# Altium footprint library PCB_Sensor.PcbLib: 11 footprints
Each footprint in its own frame and in the unit in brackets; x right, y up, seen from the top. Pads: shape width x height; smd on the part's side, far side on the other; paste and mask are expansions set on the pad; w line width, h text height; cw(c..) or ccw(c..) is an arc to the next point about the centre after c.
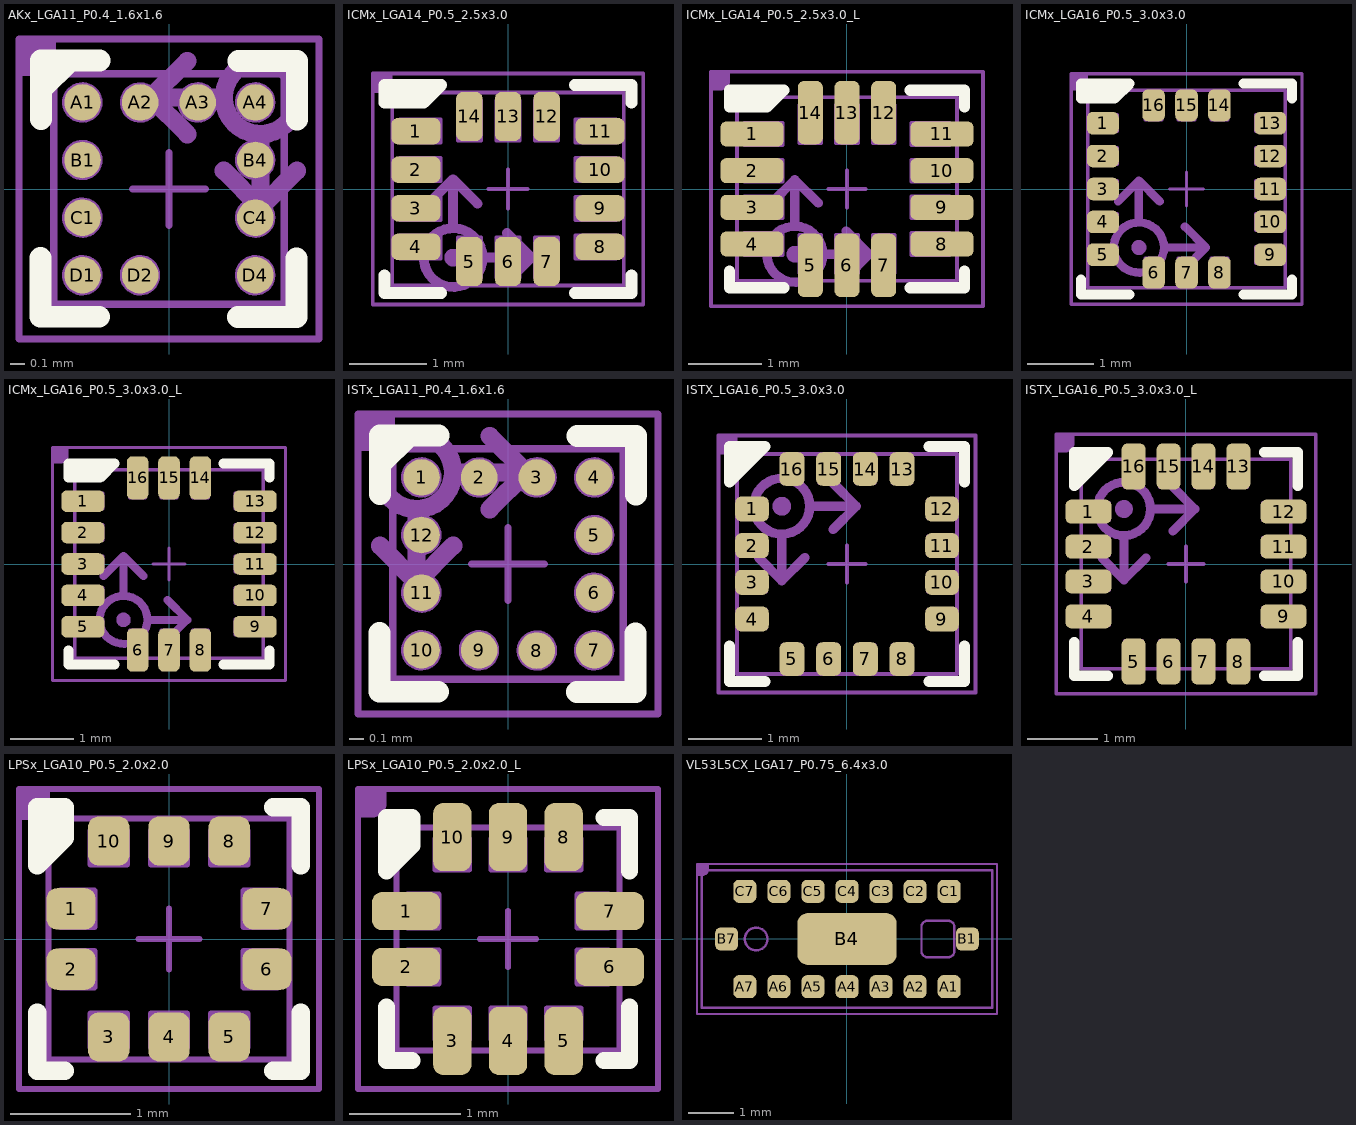
[diagram p0: the footprints below, top view; thin cyan lines are the x and y axes]

## AKx_LGA11_P0.4_1.6x1.6 [mil]
pads (11):
  round 10 smd: A1(-23.63,23.66) A2(-7.88,23.66) A3(7.86,23.66) A4(23.61,23.66) B1(-23.63,7.92) B4(23.61,7.92) C1(-23.63,-7.83) C4(23.61,-7.83) D1(-23.63,-23.58) D2(-7.88,-23.58) D4(23.61,-23.58)
Top Overlay:
  lines w6: -35.15,-18.92 -35.15,-34.91 -19.15,-34.92 ; -35.03,19.12 -35.03,35.11 -19.03,35.12 ; -35.03,27.11 -27.03,35.12 ; 18.88,-35.03 34.88,-35.03 34.88,-19.03 ; 19,35 34.99,35 35,19
Mechanical 4:
  circle w5: c25,25 r10
  circle w4: c25,25 r1
  lines w5: 5,15 -5,25 ; 5,35 -5,25 ; 15,5 25,-5 ; 15,25 -5,25 ; 25,15 25,-5 ; 35,5 25,-5
  text "Y" at 4.4,-38.26 h20
  text "X" at -40,10 h20
Mechanical 13:
  circle w2: c-23.7,-7.83 r4.53
  circle w2: c-23.7,-23.58 r4.53
  circle w2: c-7.95,-23.58 r4.53
  circle w2: c-23.7,7.92 r4.53
  circle w2: c-23.7,23.66 r4.53
  circle w2: c-7.9,23.65 r4.53
  circle w2: c23.55,-23.58 r4.53
  circle w2: c23.55,-7.83 r4.53
  circle w2: c23.55,7.92 r4.53
  circle w2: c23.55,23.66 r4.53
  circle w2: c7.8,23.66 r4.53
  lines w2: -10,0 10,0 ; 0,-10 0,10 ; -31.5,-31.5 31.5,-31.5 31.5,31.5 -31.5,31.5 -31.5,-31.5
T-Component:
  region: -41,41 -31,41 -31,36 -31,35.01 -31.76,33.17 -33.17,31.76 -35.01,31 -36,31 -41,31
  lines w1.97: -41,-41 41,-41 41,41 -41,41 -41,-41
  text ".Designator" at -174.09,-15.1 h70
3D body "LGA16C40P4X4_160X160X60.step": height 23.62, standoff 0, extent -31.5,-31.5 31.5,31.5

## ICMx_LGA14_P0.5_2.5x3.0 [mil]
pads (14):
  rrect50% 25x13.5 smd: 1(-47,29.53) 2(-47,9.84) 3(-47,-9.84) 4(-47,-29.53) 8(47,-29.53) 9(47,-9.84) 10(47,9.84) 11(47,29.53)
  rrect50% 13.5x25 smd: 5(-19.68,-37) 6(0,-37) 7(19.69,-37) 12(19.69,37) 13(0,37) 14(-19.68,37)
Top Overlay:
  region: -63,53 -34,53 -43,44 -63,44
  lines w6: -63,-44 -63,-53 -34,-53 ; 34,-53 63,-53 63,-44 ; 34,53 63,53 63,44 ; -63,44 -63,53 -34,53 -43,44 -63,44
Top Solder:
  region: 19.69,-24.5 -19.68,-24.5 -19.68,-49.5 19.69,-49.5
  region: 19.69,49.5 -19.68,49.5 -19.68,24.5 19.69,24.5
  region: -34.5,-29.53 -34.5,29.53 -59.5,29.53 -59.5,-29.53
  region: 59.5,-29.53 59.5,29.53 34.5,29.53 34.5,-29.53
Mechanical 4:
  circle w5: c-28,-35 r2
  circle w5: c-28,-35 r15
  lines w5: -40.5,-7.5 -28,5 ; -28,-20 -28,5 ; -15.5,-7.5 -28,5 ; -13,-35 12,-35 ; -0.5,-47.5 12,-35 ; -0.5,-22.5 12,-35
  text "X" at 17,-55 h30
  text "Y" at -48,15 h30
Mechanical 13:
  lines w2: -10,0 10,0 ; 0,-10 0,10 ; -59.06,-49.21 59.06,-49.21 59.06,49.21 -59.06,49.21 -59.06,-49.21 ; -55.12,-35.43 -34.45,-35.43 -34.45,-23.62 -55.12,-23.62 -55.12,-35.43 ; -55.12,-15.75 -34.45,-15.75 -34.45,-3.94 -55.12,-3.94 -55.12,-15.75 ; -55.12,3.94 -34.45,3.94 -34.45,15.75 -55.12,15.75 -55.12,3.94 ; -55.12,23.62 -34.45,23.62 -34.45,35.43 -55.12,35.43 -55.12,23.62 ; -25.59,-45.28 -25.59,-24.61 -13.78,-24.61 -13.78,-45.28 -25.59,-45.28 ; -25.59,24.61 -13.78,24.61 -13.78,45.28 -25.59,45.28 -25.59,24.61 ; -5.91,-45.28 -5.91,-24.61 5.91,-24.61 5.91,-45.28 -5.91,-45.28 ; -5.91,24.61 5.91,24.61 5.91,45.28 -5.91,45.28 -5.91,24.61 ; 13.78,-45.28 13.78,-24.61 25.59,-24.61 25.59,-45.28 13.78,-45.28 ; 13.78,24.61 13.78,45.28 25.59,45.28 25.59,24.61 13.78,24.61 ; 34.45,-35.43 55.12,-35.43 55.12,-23.62 34.45,-23.62 34.45,-35.43 ; 34.45,-15.75 55.12,-15.75 55.12,-3.94 34.45,-3.94 34.45,-15.75 ; 34.45,3.94 55.12,3.94 55.12,15.75 34.45,15.75 34.45,3.94 ; 34.45,23.62 55.12,23.62 55.12,35.43 34.45,35.43 34.45,23.62
T-Component:
  region: -69,59 -59,59 -59,54 -59,53.01 -59.76,51.17 -61.17,49.76 -63.01,49 -64,49 -69,49
  lines w2: -69,-59 -69,59 69,59 69,-59 -69,-59
  text ".Designator" at -248.5,-21.55 h100
3D body "PQFN50P300X250X97-14L.step": height 38.19, standoff 0, extent -59.06,-49.21 59.06,49.21

## ICMx_LGA14_P0.5_2.5x3.0_L [mil]
pads (14):
  rrect50% 34x13.5 smd: 1(-51,29.53) 2(-51,9.84) 3(-51,-9.84) 4(-51,-29.53) 8(51,-29.53) 9(51,-9.84) 10(51,9.84) 11(51,29.53)
  rrect50% 13.5x34 smd: 5(-19.68,-41) 6(0,-41) 7(19.69,-41) 12(19.69,41) 13(0,41) 14(-19.68,41)
Top Overlay:
  region: -63,53 -34,53 -43,44 -63,44
  lines w6: -63,-44 -63,-53 -34,-53 ; 34,-53 63,-53 63,-44 ; 34,53 63,53 63,44 ; -63,44 -43,44 -34,53 -63,53 -63,44
Top Solder:
  region: -34,-29.53 -34,29.53 -68,29.53 -68,-29.53
  region: 68,-29.53 68,29.53 34,29.53 34,-29.53
  region: 19.69,58 -19.68,58 -19.68,24 19.69,24
  region: 19.69,-24 -19.68,-24 -19.68,-58 19.69,-58
Mechanical 4:
  circle w5: c-28,-35 r2
  circle w5: c-28,-35 r15
  lines w5: -40.5,-7.5 -28,5 ; -28,-20 -28,5 ; -15.5,-7.5 -28,5 ; -13,-35 12,-35 ; -0.5,-47.5 12,-35 ; -0.5,-22.5 12,-35
  text "X" at 17,-55 h30
  text "Y" at -48,15 h30
Mechanical 13:
  lines w2: -10,0 10,0 ; 0,-10 0,10 ; -59.06,-49.21 -59.06,49.21 59.06,49.21 59.06,-49.21 -59.06,-49.21 ; -55.12,-35.43 -34.45,-35.43 -34.45,-23.62 -55.12,-23.62 -55.12,-35.43 ; -55.12,-15.75 -34.45,-15.75 -34.45,-3.94 -55.12,-3.94 -55.12,-15.75 ; -55.12,3.94 -34.45,3.94 -34.45,15.75 -55.12,15.75 -55.12,3.94 ; -55.12,23.62 -34.45,23.62 -34.45,35.43 -55.12,35.43 -55.12,23.62 ; -25.59,-45.28 -25.59,-24.61 -13.78,-24.61 -13.78,-45.28 -25.59,-45.28 ; -25.59,24.61 -13.78,24.61 -13.78,45.28 -25.59,45.28 -25.59,24.61 ; -5.91,-45.28 -5.91,-24.61 5.91,-24.61 5.91,-45.28 -5.91,-45.28 ; -5.91,24.61 5.91,24.61 5.91,45.28 -5.91,45.28 -5.91,24.61 ; 13.78,-45.28 13.78,-24.61 25.59,-24.61 25.59,-45.28 13.78,-45.28 ; 13.78,24.61 13.78,45.28 25.59,45.28 25.59,24.61 13.78,24.61 ; 34.45,-35.43 55.12,-35.43 55.12,-23.62 34.45,-23.62 34.45,-35.43 ; 34.45,-15.75 55.12,-15.75 55.12,-3.94 34.45,-3.94 34.45,-15.75 ; 34.45,3.94 55.12,3.94 55.12,15.75 34.45,15.75 34.45,3.94 ; 34.45,23.62 55.12,23.62 55.12,35.43 34.45,35.43 34.45,23.62
T-Component:
  region: -73,63 -63,63 -63,58 -63,57.01 -63.76,55.17 -65.17,53.76 -67.01,53 -68,53 -73,53
  lines w2: -73,-63 -73,63 73,63 73,-63 -73,-63
  text ".Designator" at -248.5,-21.55 h100
3D body "PQFN50P300X250X97-14L.step": height 38.19, standoff 0, extent -59.06,-49.21 59.06,49.21

## ICMx_LGA16_P0.5_3.0x3.0 [mil]
pads (16):
  rrect50% 19x13.5 smd: 1(-50,39.37) 2(-50,19.68) 3(-50,0) 4(-50,-19.68) 5(-50,-39.37) 9(50,-39.37) 10(50,-19.68) 11(50,0) 12(50,19.68) 13(50,39.37)
  rrect50% 13.5x19 smd: 6(-19.68,-50) 7(0,-50) 8(19.68,-50) 14(19.68,50) 15(0,50) 16(-19.68,50)
Top Overlay:
  region: -63,63 -34,63 -43,54 -63,54
  lines w6: -63,-54 -63,-63 -34,-63 ; 34,-63 63,-63 63,-54 ; 34,63 63,63 63,54 ; -63,54 -43,54 -34,63 -63,63 -63,54
Top Solder:
  region: -40,-40 -40,40 -60,40 -60,-40
  region: -40.5,-39.37 -40.5,39.37 -59.5,39.37 -59.5,-39.37
  region: 59.5,-39.37 59.5,39.37 40.5,39.37 40.5,-39.37
  region: 19.68,-40.5 -19.68,-40.5 -19.68,-59.5 19.68,-59.5
  region: 19.68,59.5 -19.68,59.5 -19.68,40.5 19.68,40.5
Mechanical 4:
  circle w5: c-28.5,-35 r2
  circle w5: c-28.5,-35 r15
  lines w5: -41,-7.5 -28.5,5 ; -28.5,-20 -28.5,5 ; -16,-7.5 -28.5,5 ; -13.5,-35 11.5,-35 ; -1,-47.5 11.5,-35 ; -1,-22.5 11.5,-35
  text "X" at 16.5,-55 h30
  text "Y" at -48.5,15 h30
Mechanical 13:
  lines w2: -10,0 10,0 ; 0,-10 0,10 ; -59.06,-59.06 59.06,-59.06 59.06,59.06 -59.06,59.06 -59.06,-59.06 ; -55.12,-44.29 -55.12,-34.45 -41.34,-34.45 -41.34,-44.29 -55.12,-44.29 ; -55.12,-24.61 -55.12,-14.76 -41.34,-14.76 -41.34,-24.61 -55.12,-24.61 ; -55.12,-4.92 -55.12,4.92 -41.34,4.92 -41.34,-4.92 -55.12,-4.92 ; -55.12,14.76 -55.12,24.61 -41.34,24.61 -41.34,14.76 -55.12,14.76 ; -55.12,34.45 -55.12,44.29 -41.34,44.29 -41.34,34.45 -55.12,34.45 ; -24.61,-55.12 -14.76,-55.12 -14.76,-41.34 -24.61,-41.34 -24.61,-55.12 ; -24.61,41.34 -24.61,55.12 -14.76,55.12 -14.76,41.34 -24.61,41.34 ; -4.92,-55.12 4.92,-55.12 4.92,-41.34 -4.92,-41.34 -4.92,-55.12 ; -4.92,41.34 -4.92,55.12 4.92,55.12 4.92,41.34 -4.92,41.34 ; 14.76,-55.12 24.61,-55.12 24.61,-41.34 14.76,-41.34 14.76,-55.12 ; 14.76,41.34 14.76,55.12 24.61,55.12 24.61,41.34 14.76,41.34 ; 41.34,-44.29 41.34,-34.45 55.12,-34.45 55.12,-44.29 41.34,-44.29 ; 41.34,-24.61 41.34,-14.76 55.12,-14.76 55.12,-24.61 41.34,-24.61 ; 41.34,-4.92 41.34,4.92 55.12,4.92 55.12,-4.92 41.34,-4.92 ; 41.34,14.76 41.34,24.61 55.12,24.61 55.12,14.76 41.34,14.76 ; 41.34,34.45 41.34,44.29 55.12,44.29 55.12,34.45 41.34,34.45
T-Component:
  region: -69,69 -59,69 -59,64 -59,63.01 -59.76,61.17 -61.17,59.76 -63.01,59 -64,59 -69,59
  lines w2: -69,-69 69,-69 69,69 -69,69 -69,-69
  text ".Designator" at -248.5,-21.55 h100
3D body "PQFN50P300X300X75-16L.step": height 29.53, standoff 0, extent -59.06,-59.06 59.06,59.06

## ICMx_LGA16_P0.5_3.0x3.0_L [mil]
pads (16):
  rrect50% 27x13.5 smd: 1(-54,39.37) 2(-54,19.68) 3(-54,0) 4(-54,-19.68) 5(-54,-39.37) 9(54,-39.37) 10(54,-19.68) 11(54,0) 12(54,19.68) 13(54,39.37)
  rrect50% 13.5x27 smd: 6(-19.68,-54) 7(0,-54) 8(19.68,-54) 14(19.68,54) 15(0,54) 16(-19.68,54)
Top Overlay:
  region: -63,63 -34,63 -43,54 -63,54
  lines w6: -63,-54 -63,-63 -34,-63 ; 34,-63 63,-63 63,-54 ; 34,63 63,63 63,54 ; -63,54 -43,54 -34,63 -63,63 -63,54
Top Solder:
  region: 19.68,67.5 -19.68,67.5 -19.68,40.5 19.68,40.5
  region: 67.5,-40 67.5,40 40.5,40 40.5,-40
  region: -40.5,-40 -40.5,40 -67.5,40 -67.5,-40
  region: -40.5,-39.37 -40.5,39.37 -59.5,39.37 -59.5,-39.37
  region: 19.68,-40.5 -19.68,-40.5 -19.68,-67.5 19.68,-67.5
Mechanical 4:
  circle w5: c-28.5,-35 r2
  circle w5: c-28.5,-35 r15
  lines w5: -41,-7.5 -28.5,5 ; -28.5,-20 -28.5,5 ; -16,-7.5 -28.5,5 ; -13.5,-35 11.5,-35 ; -1,-47.5 11.5,-35 ; -1,-22.5 11.5,-35
  text "X" at 16.5,-55 h30
  text "Y" at -48.5,15 h30
Mechanical 13:
  lines w2: -10,0 10,0 ; 0,-10 0,10 ; -59.06,-59.06 59.06,-59.06 59.06,59.06 -59.06,59.06 -59.06,-59.06 ; -55.12,-44.29 -55.12,-34.45 -41.34,-34.45 -41.34,-44.29 -55.12,-44.29 ; -55.12,-24.61 -55.12,-14.76 -41.34,-14.76 -41.34,-24.61 -55.12,-24.61 ; -55.12,-4.92 -55.12,4.92 -41.34,4.92 -41.34,-4.92 -55.12,-4.92 ; -55.12,14.76 -55.12,24.61 -41.34,24.61 -41.34,14.76 -55.12,14.76 ; -55.12,34.45 -55.12,44.29 -41.34,44.29 -41.34,34.45 -55.12,34.45 ; -24.61,-55.12 -14.76,-55.12 -14.76,-41.34 -24.61,-41.34 -24.61,-55.12 ; -24.61,41.34 -24.61,55.12 -14.76,55.12 -14.76,41.34 -24.61,41.34 ; -4.92,-55.12 4.92,-55.12 4.92,-41.34 -4.92,-41.34 -4.92,-55.12 ; -4.92,41.34 -4.92,55.12 4.92,55.12 4.92,41.34 -4.92,41.34 ; 14.76,-55.12 24.61,-55.12 24.61,-41.34 14.76,-41.34 14.76,-55.12 ; 14.76,41.34 14.76,55.12 24.61,55.12 24.61,41.34 14.76,41.34 ; 41.34,-44.29 41.34,-34.45 55.12,-34.45 55.12,-44.29 41.34,-44.29 ; 41.34,-24.61 41.34,-14.76 55.12,-14.76 55.12,-24.61 41.34,-24.61 ; 41.34,-4.92 41.34,4.92 55.12,4.92 55.12,-4.92 41.34,-4.92 ; 41.34,14.76 41.34,24.61 55.12,24.61 55.12,14.76 41.34,14.76 ; 41.34,34.45 41.34,44.29 55.12,44.29 55.12,34.45 41.34,34.45
T-Component:
  region: -73,73 -63,73 -63,68 -63,67.01 -63.76,65.17 -65.17,63.76 -67.01,63 -68,63 -73,63
  lines w2: -73,-73 73,-73 73,73 -73,73 -73,-73
  text ".Designator" at -248.5,-21.55 h100
3D body "PQFN50P300X300X75-16L.step": height 29.53, standoff 0, extent -59.06,-59.06 59.06,59.06

## ISTx_LGA11_P0.4_1.6x1.6 [mil]
pads (12):
  round 10 smd: 1(-23.63,23.66) 2(-7.88,23.66) 3(7.86,23.66) 4(23.61,23.66) 5(23.61,7.92) 6(23.61,-7.83) 7(23.61,-23.58) 8(7.88,-23.66) 9(-7.88,-23.58) 10(-23.63,-23.58) 11(-23.63,-7.83) 12(-23.63,7.92)
Top Overlay:
  lines w6: -35.15,-18.92 -35.15,-34.91 -19.15,-34.92 ; -35.03,19.12 -35.03,35.11 -19.03,35.12 ; -35.03,27.11 -27.03,35.12 ; 18.88,-35.03 34.88,-35.03 34.88,-19.03 ; 19,35 34.99,35 35,19
Mechanical 4:
  circle w4: c-25,25 r1
  circle w5: c-25,25 r10
  lines w5: -35,5 -25,-5 ; -25,15 -25,-5 ; -15,5 -25,-5 ; -15,25 5,25 ; -5,15 5,25 ; -5,35 5,25
  text "X" at 0,10 h20
  text "Y" at -45.6,-38.26 h20
Mechanical 13:
  circle w2: c7.8,23.66 r4.53
  circle w2: c23.55,23.66 r4.53
  circle w2: c23.55,7.92 r4.53
  circle w2: c23.55,-7.83 r4.53
  circle w2: c23.55,-23.58 r4.53
  circle w2: c-7.9,23.65 r4.53
  circle w2: c-23.7,23.66 r4.53
  circle w2: c-23.7,7.92 r4.53
  circle w2: c-7.95,-23.58 r4.53
  circle w2: c-23.7,-23.58 r4.53
  circle w2: c-23.7,-7.83 r4.53
  circle w2: c7.9,-23.65 r4.53
  lines w2: -10,0 10,0 ; 0,-10 0,10 ; -31.5,-31.5 -31.5,31.5 31.5,31.5 31.5,-31.5 -31.5,-31.5
T-Component:
  region: -41,41 -31,41 -31,36 -31,35.01 -31.76,33.17 -33.17,31.76 -35.01,31 -36,31 -41,31
  lines w1.97: -41,-41 -41,41 41,41 41,-41 -41,-41
  text ".Designator" at -174.09,-15.1 h70
3D body "LGA16C40P4X4_160X160X60.step": height 23.62, standoff 0, extent -31.5,-31.5 31.5,31.5

## ISTX_LGA16_P0.5_3.0x3.0 [mil]
pads (16):
  rrect50% 18x13.5 smd: 1(-51,29.53) 2(-51,9.84) 3(-51,-9.84) 4(-51,-29.53) 9(51,-29.53) 10(51,-9.84) 11(51,9.84) 12(51,29.53)
  rrect50% 13.5x18 smd: 5(-29.53,-51) 6(-9.84,-51) 7(9.84,-51) 8(29.53,-51) 13(29.53,51) 14(9.84,51) 15(-9.84,51) 16(-29.53,51)
Top Overlay:
  region: -63,63 -44,63 -63,44
  lines w6: -63,-44 -63,-63 -44,-63 ; 44,-63 63,-63 63,-44 ; 44,63 63,63 63,44 ; -63,44 -63,63 -44,63 -63,44
Top Solder:
  region: 60,-29.53 60,29.53 42,29.53 42,-29.53
  rectangle: -29.53,42 29.53,60
  rectangle: -29.53,-60 29.53,-42
  region: -60,29.53 -60,-29.53 -42,-29.53 -42,29.53
Mechanical 4:
  circle w5: c-35,31 r15
  circle w6: c-35,31 r2
  lines w5: -47.5,3.5 -35,-9 ; -35,16 -35,-9 ; -22.5,3.5 -35,-9 ; -20,31 5,31 ; -7.5,18.5 5,31 ; -7.5,43.5 5,31
  text "Y" at -55.19,-54.2 h30
  text "X" at 14.3,12.36 h30
Mechanical 13:
  lines w2: -10,0 10,0 ; 0,-10 0,10 ; -59.06,-59.06 -59.06,59.06 59.06,59.06 59.06,-59.06 -59.06,-59.06 ; -56.1,-34.45 -56.1,-24.61 -43.31,-24.61 -43.31,-34.45 -56.1,-34.45 ; -56.1,-14.76 -56.1,-4.92 -43.31,-4.92 -43.31,-14.76 -56.1,-14.76 ; -56.1,4.92 -56.1,14.76 -43.31,14.76 -43.31,4.92 -56.1,4.92 ; -56.1,24.61 -56.1,34.45 -43.31,34.45 -43.31,24.61 -56.1,24.61 ; -34.45,-56.1 -24.61,-56.1 -24.61,-43.31 -34.45,-43.31 -34.45,-56.1 ; -34.45,43.31 -24.61,43.31 -24.61,56.1 -34.45,56.1 -34.45,43.31 ; -14.76,-56.1 -4.92,-56.1 -4.92,-43.31 -14.76,-43.31 -14.76,-56.1 ; -14.76,43.31 -4.92,43.31 -4.92,56.1 -14.76,56.1 -14.76,43.31 ; 4.92,-56.1 14.76,-56.1 14.76,-43.31 4.92,-43.31 4.92,-56.1 ; 4.92,43.31 14.76,43.31 14.76,56.1 4.92,56.1 4.92,43.31 ; 24.61,-56.1 34.45,-56.1 34.45,-43.31 24.61,-43.31 24.61,-56.1 ; 24.61,43.31 34.45,43.31 34.45,56.1 24.61,56.1 24.61,43.31 ; 43.31,-34.45 43.31,-24.61 56.1,-24.61 56.1,-34.45 43.31,-34.45 ; 43.31,-14.76 43.31,-4.92 56.1,-4.92 56.1,-14.76 43.31,-14.76 ; 43.31,4.92 43.31,14.76 56.1,14.76 56.1,4.92 43.31,4.92 ; 43.31,24.61 43.31,34.45 56.1,34.45 56.1,24.61 43.31,24.61
T-Component:
  region: -69,69 -59,69 -59,64 -59,63.01 -59.76,61.17 -61.17,59.76 -63.01,59 -64,59 -69,59
  lines w2: -69,-69 -69,69 69,69 69,-69 -69,-69
  text ".Designator" at -248.5,-21.55 h100
3D body "QFN50P300X300X100-16L.step": height 39.37, standoff 0, extent -59.06,-59.06 59.06,59.06

## ISTX_LGA16_P0.5_3.0x3.0_L [mil]
pads (16):
  rrect50% 26x13.5 smd: 1(-55,29.53) 2(-55,9.84) 3(-55,-9.84) 4(-55,-29.53) 9(55,-29.53) 10(55,-9.84) 11(55,9.84) 12(55,29.53)
  rrect50% 13.5x26 smd: 5(-29.53,-55) 6(-9.84,-55) 7(9.84,-55) 8(29.53,-55) 13(29.53,55) 14(9.84,55) 15(-9.84,55) 16(-29.53,55)
Top Overlay:
  region: -63,63 -44,63 -63,44
  lines w6: -63,-44 -63,-63 -44,-63 ; 44,-63 63,-63 63,-44 ; 44,63 63,63 63,44 ; -63,44 -63,63 -44,63 -63,44
Top Solder:
  rectangle: -29.53,-68 29.53,-42
  region: -42,-29.53 -42,29.53 -68,29.53 -68,-29.53
  region: 68,-29.53 68,29.53 42,29.53 42,-29.53
  region: 29.53,68 -29.53,68 -29.53,42 29.53,42
Mechanical 4:
  circle w5: c-35,31 r15
  circle w6: c-35,31 r2
  lines w5: -47.5,3.5 -35,-9 ; -35,16 -35,-9 ; -22.5,3.5 -35,-9 ; -20,31 5,31 ; -7.5,18.5 5,31 ; -7.5,43.5 5,31
  text "Y" at -55.19,-54.2 h30
  text "X" at 14.3,12.36 h30
Mechanical 13:
  lines w2: -10,0 10,0 ; 0,-10 0,10 ; -59.06,-59.06 -59.06,59.06 59.06,59.06 59.06,-59.06 -59.06,-59.06 ; -56.1,-34.45 -56.1,-24.61 -43.31,-24.61 -43.31,-34.45 -56.1,-34.45 ; -56.1,-14.76 -56.1,-4.92 -43.31,-4.92 -43.31,-14.76 -56.1,-14.76 ; -56.1,4.92 -56.1,14.76 -43.31,14.76 -43.31,4.92 -56.1,4.92 ; -56.1,24.61 -56.1,34.45 -43.31,34.45 -43.31,24.61 -56.1,24.61 ; -34.45,-56.1 -24.61,-56.1 -24.61,-43.31 -34.45,-43.31 -34.45,-56.1 ; -34.45,43.31 -24.61,43.31 -24.61,56.1 -34.45,56.1 -34.45,43.31 ; -14.76,-56.1 -4.92,-56.1 -4.92,-43.31 -14.76,-43.31 -14.76,-56.1 ; -14.76,43.31 -4.92,43.31 -4.92,56.1 -14.76,56.1 -14.76,43.31 ; 4.92,-56.1 14.76,-56.1 14.76,-43.31 4.92,-43.31 4.92,-56.1 ; 4.92,43.31 14.76,43.31 14.76,56.1 4.92,56.1 4.92,43.31 ; 24.61,-56.1 34.45,-56.1 34.45,-43.31 24.61,-43.31 24.61,-56.1 ; 24.61,43.31 34.45,43.31 34.45,56.1 24.61,56.1 24.61,43.31 ; 43.31,-34.45 43.31,-24.61 56.1,-24.61 56.1,-34.45 43.31,-34.45 ; 43.31,-14.76 43.31,-4.92 56.1,-4.92 56.1,-14.76 43.31,-14.76 ; 43.31,4.92 43.31,14.76 56.1,14.76 56.1,4.92 43.31,4.92 ; 43.31,24.61 43.31,34.45 56.1,34.45 56.1,24.61 43.31,24.61
T-Component:
  region: -73,73 -63,73 -63,68 -63,67.01 -63.76,65.17 -65.17,63.76 -67.01,63 -68,63 -73,63
  lines w2: -73,-73 73,-73 73,73 -73,73 -73,-73
  text ".Designator" at -248.5,-21.55 h100
3D body "QFN50P300X300X100-16L.step": height 39.37, standoff 0, extent -59.06,-59.06 59.06,59.06

## LPSx_LGA10_P0.5_2.0x2.0 [mil]
pads (10):
  rrect50% 16x13.5 smd: 1(-32,9.84) 2(-32,-9.84) 6(32,-9.84) 7(32,9.84)
  rrect50% 13.5x16 smd: 3(-19.68,-32) 4(0,-32) 5(19.69,-32) 8(19.69,32) 9(0,32) 10(-19.68,32)
Top Overlay:
  region: -34,43 -43,43 -43,24 -34,33
  lines w6: -43,-24 -43,-43 -34,-43 ; 34,-43 43,-43 43,-24 ; 34,43 43,43 43,24 ; -43,24 -43,43 -34,43 -34,33 -43,24
Top Solder:
  region: 19.69,40 -19.69,40 -19.69,24 19.69,24
  region: 19.69,-24 -19.69,-24 -19.69,-40 19.69,-40
  region: 40,-9.84 40,9.84 24,9.84 24,-9.84
  region: -24,-9.84 -24,9.84 -40,9.84 -40,-9.84
Mechanical 13:
  lines w2: -10,0 10,0 ; 0,-10 0,10 ; -39.37,-39.37 39.37,-39.37 39.37,39.37 -39.37,39.37 -39.37,-39.37 ; -35.43,-15.75 -24.41,-15.75 -24.41,-3.94 -35.43,-3.94 -35.43,-15.75 ; -35.43,3.94 -24.41,3.94 -24.41,15.75 -35.43,15.75 -35.43,3.94 ; -25.59,-35.43 -25.59,-24.41 -13.78,-24.41 -13.78,-35.43 -25.59,-35.43 ; -25.59,24.41 -25.59,35.43 -13.78,35.43 -13.78,24.41 -25.59,24.41 ; -5.91,-35.43 -5.91,-24.41 5.91,-24.41 5.91,-35.43 -5.91,-35.43 ; -5.91,24.41 -5.91,35.43 5.91,35.43 5.91,24.41 -5.91,24.41 ; 13.78,-35.43 13.78,-24.41 25.59,-24.41 25.59,-35.43 13.78,-35.43 ; 13.78,24.41 13.78,35.43 25.59,35.43 25.59,24.41 13.78,24.41 ; 24.41,-15.75 24.41,-3.94 35.43,-3.94 35.43,-15.75 24.41,-15.75 ; 24.41,3.94 24.41,15.75 35.43,15.75 35.43,3.94 24.41,3.94
T-Component:
  region: -49,49 -39,49 -39,44 -39,43.01 -39.76,41.17 -41.17,39.76 -43.01,39 -44,39 -49,39
  lines w2: -49,-49 49,-49 49,49 -49,49 -49,-49
  text ".Designator" at -248.5,-21.55 h100
3D body "QFN50P200X200X80_HS-11L.step": height 31.5, standoff 0, extent -39.37,-39.37 39.37,39.37

## LPSx_LGA10_P0.5_2.0x2.0_L [mil]
pads (10):
  rrect50% 24x13.5 smd: 1(-36,9.84) 2(-36,-9.84) 6(36,-9.84) 7(36,9.84)
  rrect50% 13.5x24 smd: 3(-19.68,-36) 4(0,-36) 5(19.69,-36) 8(19.69,36) 9(0,36) 10(-19.68,36)
Top Overlay:
  region: -43,43 -34,43 -34,33 -43,24
  lines w6: -43,-24 -43,-43 -34,-43 ; 34,-43 43,-43 43,-24 ; 34,43 43,43 43,24 ; -43,24 -34,33 -34,43 -43,43 -43,24
Top Solder:
  region: 24,9.84 24,-9.84 48,-9.84 48,9.84
  region: -48,9.84 -48,-9.84 -24,-9.84 -24,9.84
  region: 19.69,-24 -19.69,-24 -19.69,-48 19.69,-48
  region: 19.69,48 -19.69,48 -19.69,24 19.69,24
Mechanical 13:
  lines w2: -10,0 10,0 ; 0,-10 0,10 ; -39.37,-39.37 39.37,-39.37 39.37,39.37 -39.37,39.37 -39.37,-39.37 ; -35.43,-15.75 -24.41,-15.75 -24.41,-3.94 -35.43,-3.94 -35.43,-15.75 ; -35.43,3.94 -24.41,3.94 -24.41,15.75 -35.43,15.75 -35.43,3.94 ; -25.59,-35.43 -25.59,-24.41 -13.78,-24.41 -13.78,-35.43 -25.59,-35.43 ; -25.59,24.41 -25.59,35.43 -13.78,35.43 -13.78,24.41 -25.59,24.41 ; -5.91,-35.43 -5.91,-24.41 5.91,-24.41 5.91,-35.43 -5.91,-35.43 ; -5.91,24.41 -5.91,35.43 5.91,35.43 5.91,24.41 -5.91,24.41 ; 13.78,-35.43 13.78,-24.41 25.59,-24.41 25.59,-35.43 13.78,-35.43 ; 13.78,24.41 13.78,35.43 25.59,35.43 25.59,24.41 13.78,24.41 ; 24.41,-15.75 24.41,-3.94 35.43,-3.94 35.43,-15.75 24.41,-15.75 ; 24.41,3.94 24.41,15.75 35.43,15.75 35.43,3.94 24.41,3.94
T-Component:
  region: -53,53 -43,53 -43,48 -43,47.01 -43.76,45.17 -45.17,43.76 -47.01,43 -48,43 -53,43
  lines w2: -53,-53 53,-53 53,53 -53,53 -53,-53
  text ".Designator" at -248.5,-21.55 h100
3D body "QFN50P200X200X80_HS-11L.step": height 31.5, standoff 0, extent -39.37,-39.37 39.37,39.37

## VL53L5CX_LGA17_P0.75_6.4x3.0 [mil]
pads (17):
  rrect50% 20x20 smd: A1(88.58,-41.34) A2(59.06,-41.34) A3(29.53,-41.34) A4(0,-41.34) A5(-29.53,-41.34) A6(-59.06,-41.34) A7(-88.58,-41.34) B1(104.33,0) B7(-104.33,0) C1(88.58,41.34) C2(59.06,41.34) C3(29.53,41.34) C4(0,41.34) C5(-29.53,41.34) C6(-59.06,41.34) C7(-88.58,41.34)
  rrect40% 86x45 smd: B4(0,0)
Mechanical 13:
  circle w2: c-78.74,0 r9.84
  lines w2: -125.98,-59.65 125.98,-59.65 125.98,59.65 -125.98,59.65 -125.98,-59.65 ; 64.57,-10.75 ccw(c69.57,-10.75) 69.57,-15.75 87.91,-15.75 ccw(c87.91,-10.75) 92.91,-10.75 92.91,10.75 ccw(c87.91,10.75) 87.91,15.75 69.57,15.75 ccw(c69.57,10.75) 64.57,10.75 64.57,-10.75
T-Component:
  region: -130,65 -120,65 -120,60 -120,59.01 -120.76,57.17 -122.17,55.76 -124.01,55 -125,55 -130,55
  lines w2: -130,-65 -130,65 130,65 130,-65 -130,-65
  text ".Designator" at -248.5,-21.55 h100